# Altium schematic symbol library connectors.SchLib: 6 symbols
Pins are listed as number, name and electrical type; pins without a type are passive.

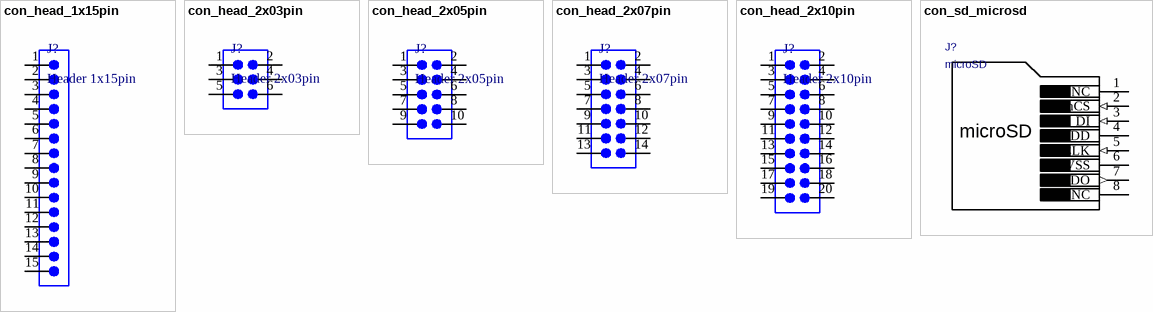
[diagram p0: symbols con_head_1x15pin to con_sd_microsd]

## con_head_1x15pin
designator J?, comment Header 1x15pin
pins: 1, 2, 3, 4, 5, 6, 7, 8, 9, 10, 11, 12, 13, 14, 15

## con_head_2x03pin
designator J?, comment Header 2x03pin
pins: 1, 2, 3, 4, 5, 6

## con_head_2x05pin
designator J?, comment Header 2x05pin
pins: 1, 2, 3, 4, 5, 6, 7, 8, 9, 10

## con_head_2x07pin
designator J?, comment Header 2x07pin
pins: 1, 2, 3, 4, 5, 6, 7, 8, 9, 10, 11, 12, 13, 14

## con_head_2x10pin
designator J?, comment Header 2x10pin
pins: 1, 2, 3, 4, 5, 6, 7, 8, 9, 10, 11, 12, 13, 14, 15, 16, 17, 18, 19, 20

## con_sd_microsd
designator J?, comment microSD
con_sd_microsd
pins: 1 NC, 2 nCS (in) "SPI Card Select / Chip Select", 3 DI (in), 4 VDD (power), 5 CLK (in), 6 VSS (power), 7 DO (out), 8 NC